# Altium footprint library 练习4.PcbLib: 1 footprints
Each footprint in its own frame and in the unit in brackets; x right, y up, seen from the top. Pads: shape width x height; smd on the part's side, far side on the other; paste and mask are expansions set on the pad; w line width, h text height; cw(c..) or ccw(c..) is an arc to the next point about the centre after c.
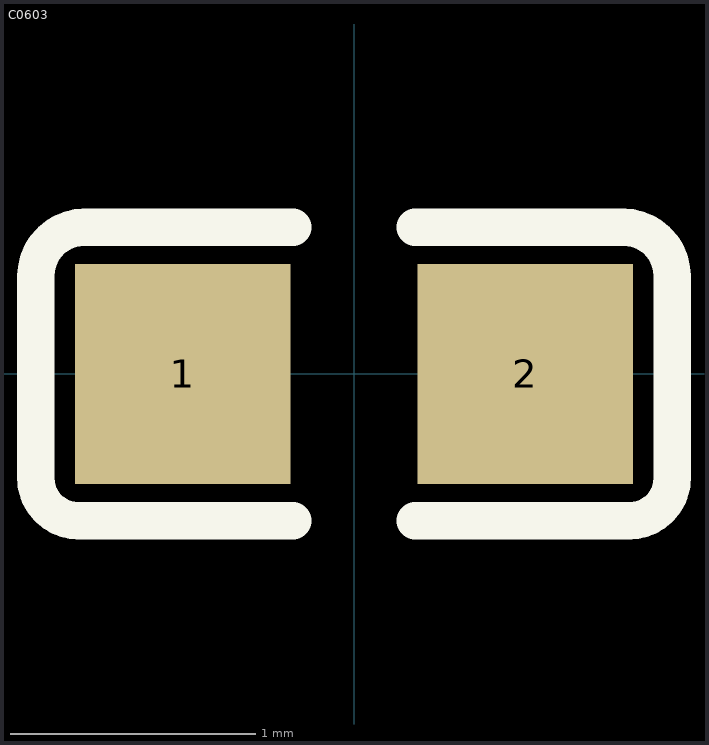
[diagram p0: the footprint, top view; thin cyan lines are the x and y axes]

## C0603 [mm]
pads (2):
  rect 0.88x0.9 smd mask+0: 1(-0.7,0) 2(0.7,0)
Top Overlay:
  lines w0.152: -1.3,0.375 -1.3,-0.425 ccw(c-1.125,-0.425) -1.125,-0.6 -0.25,-0.6 ; -1.3,0.4 cw(c-1.1,0.4) -1.1,0.6 -0.25,0.6 ; 0.25,-0.6 1.125,-0.6 ccw(c1.125,-0.425) 1.3,-0.425 1.3,0.375 ; 0.25,0.6 1.1,0.6 cw(c1.1,0.4) 1.3,0.4